# Altium schematic symbol library MinervaBots.SCHLIB: 191 symbols (part 1 of 2)
Pins are listed as number, name and electrical type; pins without a type are passive.

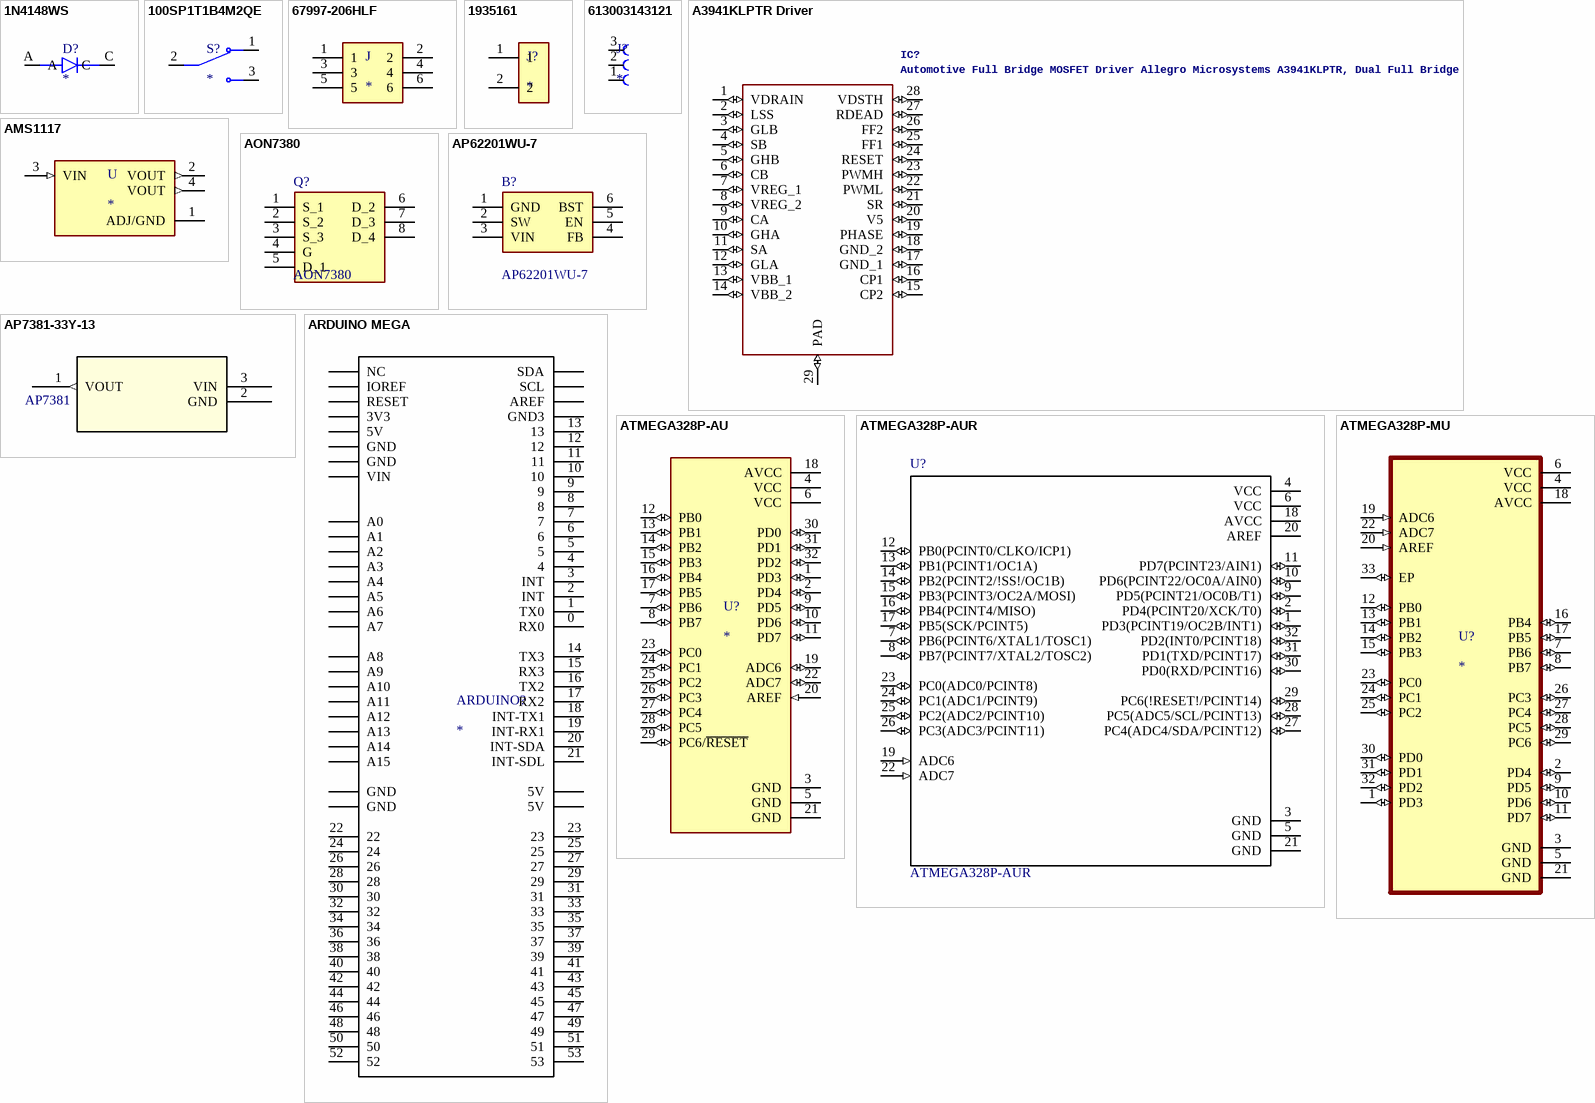
[diagram p0: symbols 1N4148WS to ATMEGA328P-MU]

## 1N4148WS
designator D?
Diode Standard 75V 300mA (DC) Surface Mount SOD-323; MF: ON Semiconductor; MP: 1N4148WS; Purchase-URL: https://pricing.snapeda.com/search/part/1N4148WS/?ref=eda; Value: *; Package: SOD-323FL-2 ON Semiconductor; Availability: In Stock; Price: None
footprint SODFL2512X100N
pins: A, C

## 100SP1T1B4M2QE
designator S?
Toggle Switch SPDT Through Hole; MP: 100SP1T1B4M2QE; Value: *; Availability: Unavailable; Price: None; Package: None
footprint SW_100SP1T1B4M2QE_ciano (Footprint not found)
footprint SW_100SP1T1B4M2QE_vermelho (Footprint not found)
footprint SW_100SP1T1B4M2QE_azul (Footprint not found)
footprint SW_100SP1T1B4M2QE_verde (Footprint not found)
pins: 1, 2, 3

## 67997-206HLF
designator J
Connector Header Through Hole 6 position 0.100 _2.54mm_; MF: Amphenol ICC; MP: 67997-206HLF; SnapEDA_Link: https://www.snapeda.com/parts/67997-206HLF/Amphenol%20FCI/view-part/103429/?ref=snap; Value: *; Digi-Key_Purchase_URL: https://www.digikey.com/product-detail/en/amphenol-icc-fci/67997-206HLF/609-3234-ND/1878491?utm_source=snapeda&utm_medium=aggregator&utm_campaign=symbol; Digi-Key_Part_Number: 609-3234-ND; Package: None
footprint FRAMATOME_67997-206HLF
pins: 1, 2, 3, 4, 5, 6

## 1935161
designator J?
2 Position Wire to Board Terminal Block Horizontal with Board 0.197 (5.00mm) Through Hole; MF: Phoenix Contact; MP: 1935161; Purchase-URL: https://pricing.snapeda.com/search/part/1935161/?ref=eda; Package: None; Availability: In Stock; Value: *; Check_prices: https://www.snapeda.com/parts/1935161/Phoenix+Contact/view-part/?ref=eda; SnapEDA_Link: https://www.snapeda.com/parts/1935161/Phoenix+Contact/view-part/?ref=snap; Price: None
footprint Borne KF-128 (Footprint not found)
pins: 1, 2

## 613003143121
designator J?
BTB CONN, R/A RCPT, 3POS, 1ROW, 2.54MM ROHS COMPLIANT: YES; MF: Wurth Electronics; MP: 613003143121; SnapEDA_Link: https://www.snapeda.com/parts/613003143121/Wurth+Electronics+Inc/view-part/?ref=snap; Package: None; Value: *; Check_prices: https://www.snapeda.com/parts/613003143121/Wurth+Electronics+Inc/view-part/?ref=eda
footprint 613003143121
footprint 613003143121
pins: 1 3, 2, 3 1

## A3941KLPTR Driver
designator IC?, comment Automotive Full Bridge MOSFET Driver Allegro Microsystems A3941KLPTR, Dual Full Bridge MOSFET Power Driver, 5.5  50 V, High Side/Low Side, 28-PinSource:  Datasheet
Driver de motor brushed; GateName_1: G$1; SymbolName_1: A3941KLPTR; LibraryName: A3941KLPTR; DeviceSetName: A3941KLPTR; Package: SOP65P640X120-29N; Manufacturer_Name: Allegro Microsystems; Manufacturer_Part_Number: A3941KLPTR; Height: 1.2mm
footprint SOP65P640X120-29N
pins: 1 VDRAIN (io), 2 LSS (io), 3 GLB (io), 4 SB (io), 5 GHB (io), 6 CB (io), 7 VREG_1 (io), 8 VREG_2 (io), 9 CA (io), 10 GHA (io), 11 SA (io), 12 GLA (io), 13 VBB_1 (io), 14 VBB_2 (io), 15 CP2 (io), 16 CP1 (io), 17 GND_1 (io), 18 GND_2 (io), 19 PHASE (io), 20 V5 (io), 21 SR (io), 22 PWML (io), 23 PWMH (io), 24 RESET (io), 25 FF1 (io), 26 FF2 (io), 27 RDEAD (io), 28 VDSTH (io), 29 PAD (io)

## AMS1117
designator U
UNO PLUS Arduino R3 Shield, Xbee Arduino IDE Wheeled Robotics Kit; MP: AMS1117; MF: Seeed Technology; Availability: Unavailable; SnapEDA_Link: https://www.snapeda.com/parts/AMS1117/Seeed%20Technology%20Co.%2C%20Ltd/view-part/184428/?ref=snap; Price: None; Value: *; Package: SOT-223 Seeed Technology
footprint SOT229P700X180-4N
pins: 1 ADJ/GND (power), 2 VOUT (out), 3 VIN (in), 4 VOUT (out)

## AON7380
designator Q?
N-Channel 30 V 24A (Tc) 4.1W (Ta), 24W (Tc) Surface Mount 8-DFN-EP (3x3); Manufacturer_Name: Toshiba; Manufacturer_Part_Number: TPH1R403NL,L1Q; Geometry.Height: 1mm; Mouser Part Number: 757-TPH1R403NLL1Q; Mouser Price/Stock: https://www.mouser.co.uk/ProductDetail/Toshiba/TPH1R403NLL1Q?qs=HVbQlW5zcXWxPmEVdb2K1w%3D%3D; Arrow Part Number: TPH1R403NL,L1Q; Arrow Price/Stock: https://www.arrow.com/en/products/tph1r403nll1q/toshiba?region=nac; Datasheet Link: https://www.arrow.com/en/products/tph1r403nll1q/toshiba
footprint AON7380 (N-Channel 30 V 24A (Tc) 4.1W (Ta), 24W (Tc) Surface Mount 8-DFN-EP (3x3))
pins: 1 S_1, 2 S_2, 3 S_3, 4 G, 5 D_1, 6 D_2, 7 D_3, 8 D_4

## AP7381-33Y-13
designator U?, comment AP7381
Regulador linear. Corrente Max.: 150mA; Mfr_Name: Diodes Inc; RefDes: RefDes; Type: Type
footprint SOT89_DIO
footprint SOT89_DIO-L
footprint SOT89_DIO-M
footprint SOT-23
pins: 1 VOUT (out), 2 GND (power), 3 VIN (power)

## AP62201WU-7
designator B?
Switching Voltage Regulators DCDC Conv HV Buck TSOT26(STD) T&R 3K; Manufacturer_Name: Diodes Incorporated; Geometry.Height: 1mm; Manufacturer_Part_Number: AP62201WU-7; Mouser Part Number: 621-AP62201WU-7; Mouser Price/Stock: https://www.mouser.co.uk/ProductDetail/Diodes-Incorporated/AP62201WU-7?qs=yqaQSyyJnNgmmr1hWGUqfg%3D%3D; Arrow Part Number: AP62201WU-7; Arrow Price/Stock: https://www.arrow.com/en/products/ap62201wu-7/diodes-incorporated?region=nac; Datasheet Link: https://www.arrow.com/en/products/ap62201wu-7/diodes-incorporated?region=nac
footprint SOT95P280X100-6N
pins: 1 GND, 2 SW, 3 VIN, 4 FB, 5 EN, 6 BST

## ARDUINO MEGA
designator ARDUINO?
footprint Arduino Mega
pins: 0 RX0 (power), 1 TX0 (power), 2 INT (power), 3 INT (power), 3V3 (power), 4 (power), 5 (power), 5V_1 5V (power), 5V_2 5V (power), 5V_3 5V (power), 6 (power), 7 (power), 8 (power), 9 (power), 10 (power), 11 (power), 12 (power), 13 (power), 14 TX3 (power), 15 RX3 (power), 16 TX2 (power), 17 RX2 (power), 18 INT-TX1 (power), 19 INT-RX1 (power), 20 INT-SDA (power), 21 INT-SDL (power), 22 (power), 23 (power), 24 (power), 25 (power), 26 (power), 27 (power), 28 (power), 29 (power), 30 (power), 31 (power), 32 (power), 33 (power), 34 (power), 35 (power), 36 (power), 37 (power), 38 (power), 39 (power), 40 (power), 41 (power), 42 (power), 43 (power), 44 (power), 45 (power), 46 (power), 47 (power), 48 (power), 49 (power), 50 (power), 51 (power), 52 (power), 53 (power), AD0 A0 (power), AD1 A1 (power), AD2 A2 (power), AD3 A3 (power), AD4 A4 (power), AD5 A5 (power), AD6 A6 (power), AD7 A7 (power), AD8 A8 (power), AD9 A9 (power), AD10 A10 (power), AD11 A11 (power), AD12 A12 (power), AD13 A13 (power), AD14 A14 (power), AD15 A15 (power), AREF (power), GND1 GND (power), GND2 GND (power), GND3 (power), GND4 GND (power), GND5 GND (power), IOREF (power), NC (power), RESET (power), SCL (power), SDA (power), VIN (power)

## ATMEGA328P-AU
designator U?
AVR AVRÂ® ATmega Microcontroller IC 8-Bit 20MHz 32KB (16K x 16) FLASH 32-TQFP (7x7); MF: Microchip Technology; MP: ATMEGA328P-AU; SnapEDA_Link: https://www.snapeda.com/parts/ATMEGA328P-AU/Microchip/view-part/?ref=snap; Package: TQFP-32 Microchip; Value: *; Check_prices: https://www.snapeda.com/parts/ATMEGA328P-AU/Microchip/view-part/?ref=eda
footprint QFP80P900X900X120-32N
pins: 1 PD3 (io), 2 PD4 (io), 3 GND (power), 4 VCC (power), 5 GND (power), 6 VCC (power), 7 PB6 (io), 8 PB7 (io), 9 PD5 (io), 10 PD6 (io), 11 PD7 (io), 12 PB0 (io), 13 PB1 (io), 14 PB2 (io), 15 PB3 (io), 16 PB4 (io), 17 PB5 (io), 18 AVCC (power), 19 ADC6 (io), 20 AREF (in), 21 GND (power), 22 ADC7 (io), 23 PC0 (io), 24 PC1 (io), 25 PC2 (io), 26 PC3 (io), 27 PC4 (io), 28 PC5 (io), 29 PC6/~{RESET} (io), 30 PD0 (io), 31 PD1 (io), 32 PD2 (io)

## ATMEGA328P-AUR
designator U?
ATmega328P Series 8 Bit 2 kB RAM 32 kB Flash SMT Microcontroller - TQFP-32; MF: Microchip; MP: ATMEGA328P-AUR; Package: TQFP-32 Microchip; Price: None; SnapEDA_Link: https://www.snapeda.com/parts/ATMEGA328P-AUR/Microchip/view-part/?ref=snap; Availability: Unavailable; Value: *
footprint ATMEGA328P-AUR
pins: 1 PD3(PCINT19/OC2B/INT1) (io), 2 PD4(PCINT20/XCK/T0) (io), 3 GND (power), 4 VCC (power), 5 GND (power), 6 VCC (power), 7 PB6(PCINT6/XTAL1/TOSC1) (io), 8 PB7(PCINT7/XTAL2/TOSC2) (io), 9 PD5(PCINT21/OC0B/T1) (io), 10 PD6(PCINT22/OC0A/AIN0) (io), 11 PD7(PCINT23/AIN1) (io), 12 PB0(PCINT0/CLKO/ICP1) (io), 13 PB1(PCINT1/OC1A) (io), 14 PB2(PCINT2/!SS!/OC1B) (io), 15 PB3(PCINT3/OC2A/MOSI) (io), 16 PB4(PCINT4/MISO) (io), 17 PB5(SCK/PCINT5) (io), 18 AVCC (power), 19 ADC6 (in), 20 AREF (power), 21 GND (power), 22 ADC7 (in), 23 PC0(ADC0/PCINT8) (io), 24 PC1(ADC1/PCINT9) (io), 25 PC2(ADC2/PCINT10) (io), 26 PC3(ADC3/PCINT11) (io), 27 PC4(ADC4/SDA/PCINT12) (io), 28 PC5(ADC5/SCL/PCINT13) (io), 29 PC6(!RESET!/PCINT14) (io), 30 PD0(RXD/PCINT16) (io), 31 PD1(TXD/PCINT17) (io), 32 PD2(INT0/PCINT18) (io)

## ATMEGA328P-MU
designator U?
AVR AVR® ATmega Microcontroller IC 8-Bit 20MHz 32KB (16K x 16) FLASH 32-VQFN (5x5); MF: Microchip Technology / Atmel; MP: ATMEGA328P-MU; SnapEDA_Link: https://www.snapeda.com/parts/ATMEGA328P-MU/Atmel/view-part/?ref=snap; Package: VQFN-32 Microchip Technology; Value: *; Check_prices: https://www.snapeda.com/parts/ATMEGA328P-MU/Atmel/view-part/?ref=eda
footprint QFN50P500X500X100-33N
pins: 1 PD3 (io), 2 PD4 (io), 3 GND (power), 4 VCC (power), 5 GND (power), 6 VCC (power), 7 PB6 (io), 8 PB7 (io), 9 PD5 (io), 10 PD6 (io), 11 PD7 (io), 12 PB0 (io), 13 PB1 (io), 14 PB2 (io), 15 PB3 (io), 16 PB4 (io), 17 PB5 (io), 18 AVCC (power), 19 ADC6 (in), 20 AREF (in), 21 GND (power), 22 ADC7 (in), 23 PC0 (io), 24 PC1 (io), 25 PC2 (io), 26 PC3 (io), 27 PC4 (io), 28 PC5 (io), 29 PC6 (io), 30 PD0 (io), 31 PD1 (io), 32 PD2 (io), 33 EP (io)

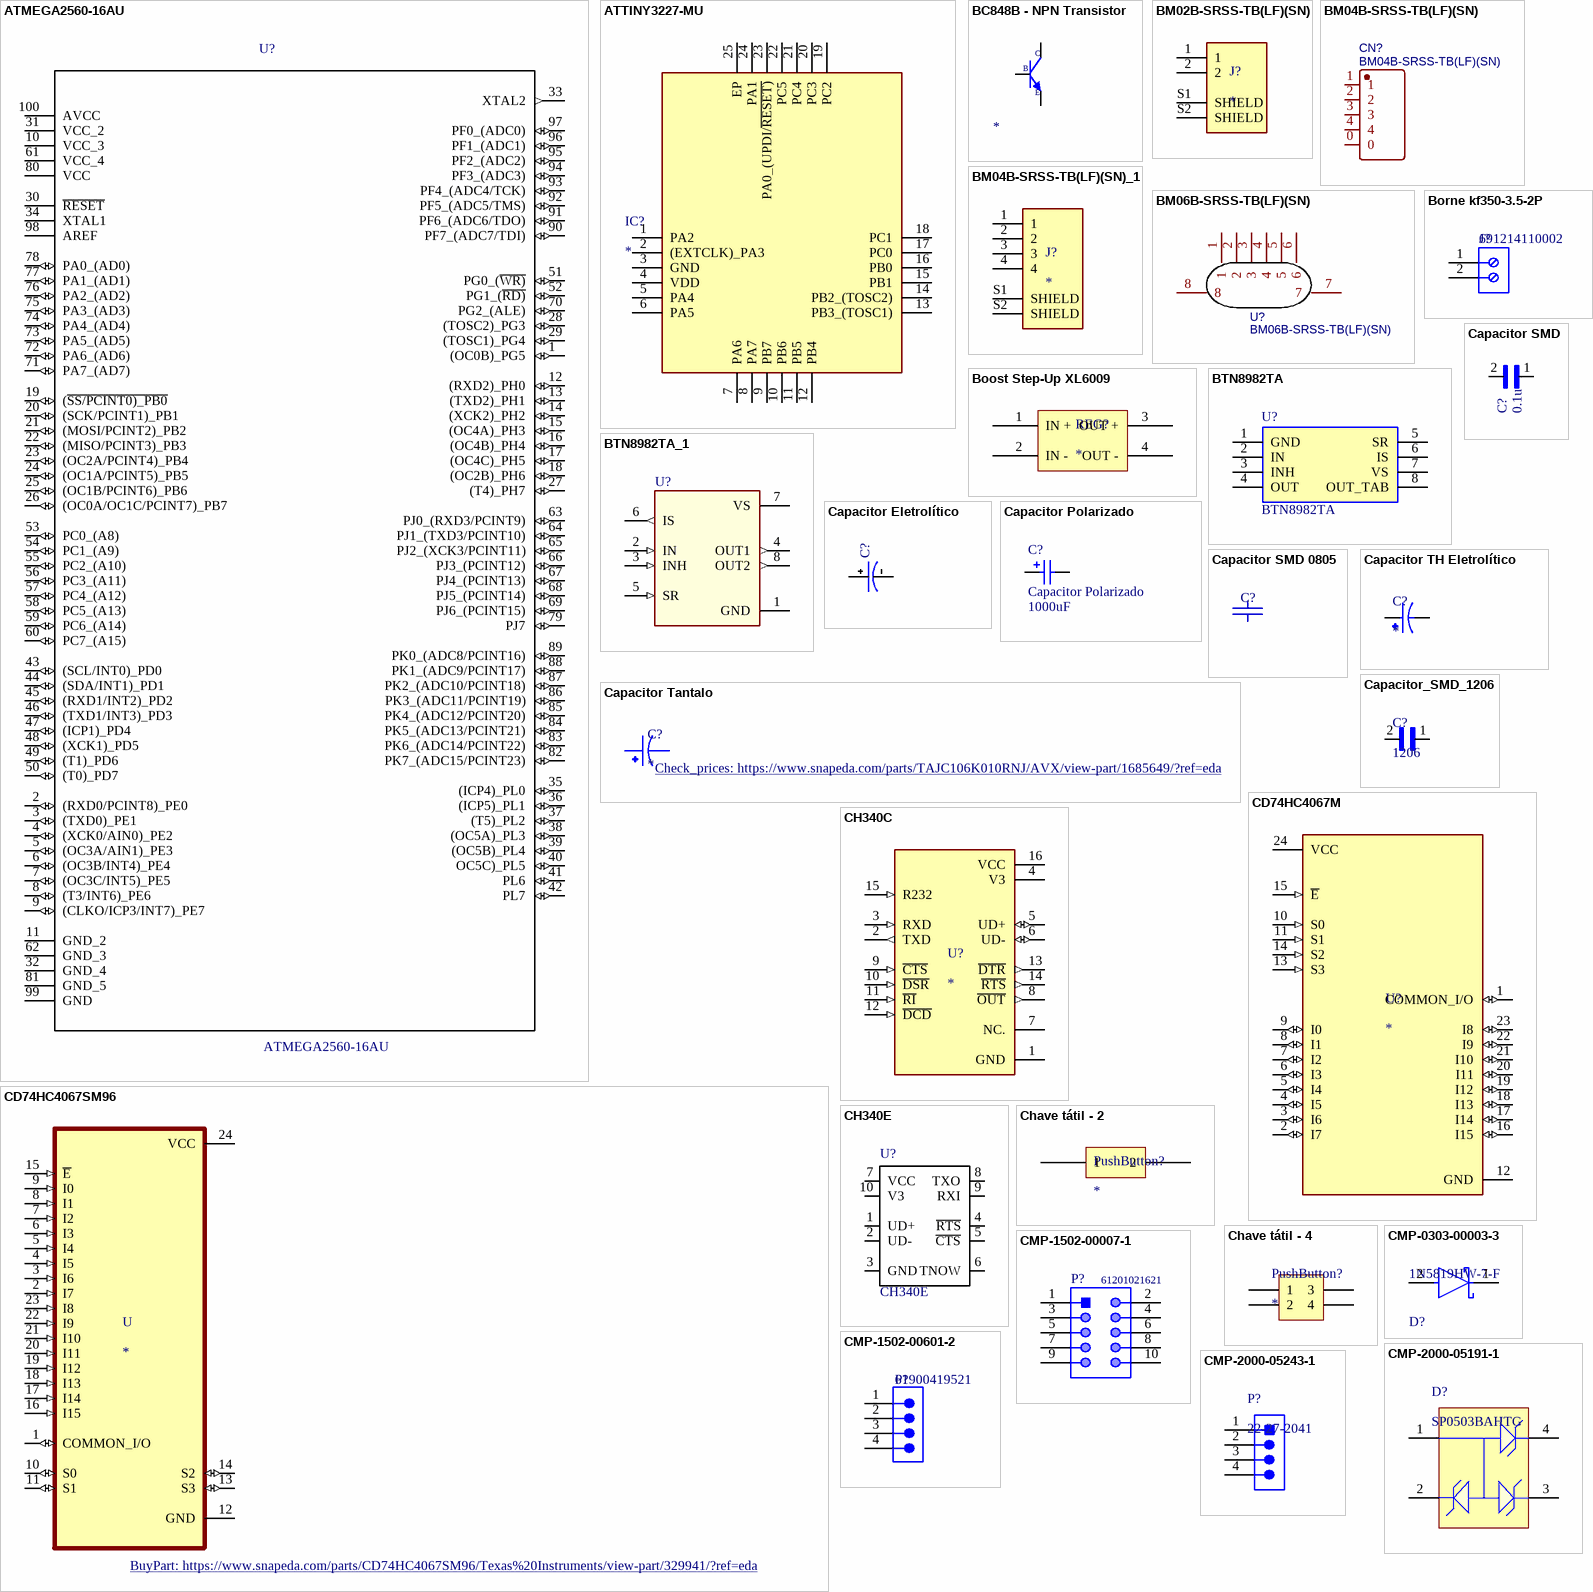
[diagram p1: symbols ATMEGA2560-16AU to CMP-2000-05243-1]

## ATMEGA2560-16AU
designator U?
Embedded microcontroller ATMEGA2560-16AU TQFP 100 _14x14_ Microchip Technology 8-Bit 16 MHz I/O number 86; Price: None; SnapEDA_Link: https://www.snapeda.com/parts/ATMEGA2560-16AU/Microchip/view-part/?ref=snap; MF: Microchip; Availability: Unavailable; Package: TQFP-100 Microchip; MP: ATMEGA2560-16AU; Value: *
footprint ATMEGA2560-16AU
pins: 1 (OC0B)_PG5 (io), 2 (RXD0/PCINT8)_PE0 (io), 3 (TXD0)_PE1 (io), 4 (XCK0/AIN0)_PE2 (io), 5 (OC3A/AIN1)_PE3 (io), 6 (OC3B/INT4)_PE4 (io), 7 (OC3C/INT5)_PE5 (io), 8 (T3/INT6)_PE6 (io), 9 (CLKO/ICP3/INT7)_PE7 (io), 10 VCC_3 (power), 11 GND_2, 12 (RXD2)_PH0 (io), 13 (TXD2)_PH1 (io), 14 (XCK2)_PH2 (io), 15 (OC4A)_PH3 (io), 16 (OC4B)_PH4 (io), 17 (OC4C)_PH5 (io), 18 (OC2B)_PH6 (io), 19 (~{SS/PCINT0)_PB0} (io), 20 (SCK/PCINT1)_PB1 (io), 21 (MOSI/PCINT2)_PB2 (io), 22 (MISO/PCINT3)_PB3 (io), 23 (OC2A/PCINT4)_PB4 (io), 24 (OC1A/PCINT5)_PB5 (io), 25 (OC1B/PCINT6)_PB6 (io), 26 (OC0A/OC1C/PCINT7)_PB7 (io), 27 (T4)_PH7 (io), 28 (TOSC2)_PG3 (io), 29 (TOSC1)_PG4 (io), 30 ~{RESET}, 31 VCC_2 (power), 32 GND_4, 33 XTAL2 (out), 34 XTAL1, 35 (ICP4)_PL0 (io), 36 (ICP5)_PL1 (io), 37 (T5)_PL2 (io), 38 (OC5A)_PL3 (io), 39 (OC5B)_PL4 (io), 40 OC5C)_PL5 (io), 41 PL6 (io), 42 PL7 (io), 43 (SCL/INT0)_PD0 (io), 44 (SDA/INT1)_PD1 (io), 45 (RXD1/INT2)_PD2 (io), 46 (TXD1/INT3)_PD3 (io), 47 (ICP1)_PD4 (io), 48 (XCK1)_PD5 (io), 49 (T1)_PD6 (io), 50 (T0)_PD7 (io), 51 PG0_(~{WR)} (io), 52 PG1_(~{RD)} (io), 53 PC0_(A8) (io), 54 PC1_(A9) (io), 55 PC2_(A10) (io), 56 PC3_(A11) (io), 57 PC4_(A12) (io), 58 PC5_(A13) (io), 59 PC6_(A14) (io), 60 PC7_(A15) (io), 61 VCC_4 (power), 62 GND_3, 63 PJ0_(RXD3/PCINT9) (io), 64 PJ1_(TXD3/PCINT10) (io), 65 PJ2_(XCK3/PCINT11) (io), 66 PJ3_(PCINT12) (io), 67 PJ4_(PCINT13) (io), 68 PJ5_(PCINT14) (io), 69 PJ6_(PCINT15) (io), 70 PG2_(ALE) (io), 71 PA7_(AD7) (io), 72 PA6_(AD6) (io), 73 PA5_(AD5) (io), 74 PA4_(AD4) (io), 75 PA3_(AD3) (io), 76 PA2_(AD2) (io), 77 PA1_(AD1) (io), 78 PA0_(AD0) (io), 79 PJ7 (io), 80 VCC (power), 81 GND_5, 82 PK7_(ADC15/PCINT23) (io), 83 PK6_(ADC14/PCINT22) (io), 84 PK5_(ADC13/PCINT21) (io), 85 PK4_(ADC12/PCINT20) (io), 86 PK3_(ADC11/PCINT19) (io), 87 PK2_(ADC10/PCINT18) (io), 88 PK1_(ADC9/PCINT17) (io), 89 PK0_(ADC8/PCINT16) (io), 90 PF7_(ADC7/TDI) (io), 91 PF6_(ADC6/TDO) (io), 92 PF5_(ADC5/TMS) (io), 93 PF4_(ADC4/TCK) (io), 94 PF3_(ADC3) (io), 95 PF2_(ADC2) (io), 96 PF1_(ADC1) (io), 97 PF0_(ADC0) (io), 98 AREF, 99 GND, 100 AVCC (power)

## ATTINY3227-MU
designator IC?
Integrated Circuit; Manufacturer_Name: Microchip; Manufacturer_Part_Number: ATTINY3227-MU; Datasheet Link: https://ww1.microchip.com/downloads/aemDocuments/documents/MCU08/ProductDocuments/DataSheets/ATtiny3224-3226-3227-Data-Sheet-DS40002345B.pdf; Height: 0.9mm; Mouser Part Number: 579-ATTINY3227-MU; Mouser Price/Stock: https://www.mouser.co.uk/ProductDetail/Microchip-Technology/ATTINY3227-MU?qs=A6eO%252BMLsxmQn1FUbCnj%252BnQ%3D%3D; Arrow Part Number: ATTINY3227-MU; Arrow Price/Stock: https://www.arrow.com/en/products/attiny3227-mu/microchip-technology?region=nac
footprint QFN50P400X400X90-25N-D
pins: 1 PA2, 2 (EXTCLK)_PA3, 3 GND, 4 VDD, 5 PA4, 6 PA5, 7 PA6, 8 PA7, 9 PB7, 10 PB6, 11 PB5, 12 PB4, 13 PB3_(TOSC1), 14 PB2_(TOSC2), 15 PB1, 16 PB0, 17 PC0, 18 PC1, 19 PC2, 20 PC3, 21 PC4, 22 PC5, 23 PA0_(UPDI/~{RESET)}, 24 PA1, 25 EP

## BC848B - NPN Transistor
designator Q?
NPN Transistor; Model: *
footprint SOT-23
pins: B, C, E

## BM02B-SRSS-TB(LF)(SN)
designator J?
Conn Shrouded Header (4 Sides) HDR 2 POS 1mm Solder ST Top Entry SMD T/R; MP: BM02B-SRSS-TB(LF)(SN); MF: JST Sales America Inc.; Package: None; Check_prices: https://www.snapeda.com/parts/BM02B-SRSS-TB(LF)(SN)/JST/view-part/?ref=eda; SnapEDA_Link: https://www.snapeda.com/parts/BM02B-SRSS-TB(LF)(SN)/JST/view-part/?ref=snap; Availability: In Stock; Price: None; Value: *
footprint JST_BM02B-SRSS-TB(LF)(SN)
pins: 1, 2, S1 SHIELD, S2 SHIELD

## BM04B-SRSS-TB(LF)(SN)
designator CN?
Manufacturer: JST; Contributor: LCSC; Supplier: LCSC; Supplier Part: C160390; Manufacturer Part: BM04B-SRSS-TB(LF)(SN); JLCPCB Part Class: Extended Part; spicePre: C; spiceSymbolName: BM04B-SRSS-TB(LF)(SN)
footprint CONN-SMD_BM04B-SRSS-TB
pins: 0, 1, 2, 3, 4

## BM04B-SRSS-TB(LF)(SN)_1
designator J?
Connector Header Surface Mount 4 position 0.039 (1.00mm); MP: BM04B-SRSS-TB(LF)(SN); MF: JST Sales; Package: None; Availability: In Stock; SnapEDA_Link: https://www.snapeda.com/parts/BM04B-SRSS-TB(LF)(SN)/JST+Sales+America+Inc./view-part/?ref=snap; Value: *; Price: None; Purchase-URL: https://pricing.snapeda.com/search/part/BM04B-SRSS-TB(LF)(SN)/?ref=eda; Check_prices: https://www.snapeda.com/parts/BM04B-SRSS-TB(LF)(SN)/JST+Sales+America+Inc./view-part/?ref=eda
footprint JST_BM04B-SRSS-TB(LF)(SN)
pins: 1, 2, 3, 4, S1 SHIELD, S2 SHIELD

## BM06B-SRSS-TB(LF)(SN)
designator U?
Manufacturer: JST; Contributor: LCSC; Supplier: LCSC; Supplier Part: C160392; Manufacturer Part: BM06B-SRSS-TB(LF)(SN); JLCPCB Part Class: Extended Part; spicePre: U; spiceSymbolName: BM06B-SRSS-TB(LF)(SN)
footprint CONN-SMD-6P-P1.00_BM06B-SRSS-TB-LF-SN
pins: 1, 2, 3, 4, 5, 6, 7, 8

## Boost Step-Up XL6009
designator REG?
footprint STEP-UP XL6009 MODULE
pins: 1 IN + (power), 2 IN - (power), 3 OUT + (power), 4 OUT - (power)

## Borne kf350-3.5-2P
designator J?, comment 691214110002
NexarPartId: 18818288; Plating: Brass, Steel; Current: 10A; Pitch: 3.5052mm; Number of Levels: 1; Number of Contacts: 2; Wire Gauge (Min): 16AWG; Voltage: 300V; Wire Gauge (Max): 24AWG; Stripping Length: -6mm; Number of Pins: 2; Number of Rows: 1; REACH SVHC: Unknown; RoHS: Compliant; Housing Material: Nylon; Termination: Screw; Mount: Through Hole; Contact Plating: Brass, Tin; Number of Positions Per Level: 2; Color: Blue, Green; Width: 7.9mm; Voltage Rating: 300V; Length: 7.4mm; Current Rating: 10A; Wire/Cable Gauge: 24AWG; Packaging: Box; Max Operating Temperature: 105°C; Lead Pitch: 3.5mm; Height: 8.7mm; Contact Material: Brass; Min Operating Temperature: -40°C
footprint 691214110002 (3.50 mm Horizontal Entry Modular, 2p)
pins: 1, 2

## BTN8982TA
designator U?
New Infineon BTN8982TA Motor Driver,, 7-Pin TO-263-7-1; Geometry.Height: 4.4mm; Supplier_Name: RS; RS Part Number: 1248819; Manufacturer_Name: Infineon; Manufacturer_Part_Number: BTN8982TA; Allied_Number: *; Other Part Number: *; Datasheet Link: http://docs-europe.electrocomponents.com/webdocs/1478/0900766b81478095.pdf; 3D Package: *
footprint BTN8982
pins: 1 GND, 2 IN, 3 INH, 4 OUT, 5 SR, 6 IS, 7 VS, 8 OUT_TAB

## BTN8982TA_1
designator U?, comment BTN8982TA  (value not drawn)
High Current PN Half Bridge NovalithIC; Manufacturer: Infineon Technologies; ManufacturerPartNumber: BTN8982TA; PackageReference: PG-TO263-7-1
footprint TO127P1500X440-8N-1 (TO,1.27mm pitch;7 pin,15.00mm L X 9.25mm W X 4.40mm H body)
pins: 1 GND (power) "Ground", 2 IN (in) "Input", 3 INH (in) "Inhibit", 4 OUT1 (out) "Power Output of the Bridge", 5 SR (in) "Slew Rate", 6 IS (out) "Current Sense and Diagnostics", 7 VS (power) "Supply", 8 OUT2 (out) "Power Output of the Bridge"

## Capacitor Eletrolítico
designator C?
MP: ECA-1HM101; MF: Panasonic; Value: *; SnapEDA_Link: https://www.snapeda.com/parts/ECA-1HM101/Panasonic%20Electronic%20Components/view-part/?ref=snap; Package: Radial Panasonic; Price: 0.12 USD; Availability: Good
footprint Capacitor Eletrolítico 5x11 - Vertical
footprint Capacitor Eletrolítico 5x11 - Deitado para Cima
footprint Capacitor Eletrolítico 5x11 - Deitado para Baixo
footprint Capacitor Eletrolítico 6.3x11 - Deitado para Baixo
footprint Capacitor Eletrolítico 6.3x11 - Deitado para Cima
footprint Capacitor Eletrolítico 6.3x11 - Vertical
footprint Capacitor Eletrolítico 8x12 - Deitado para Baixo
footprint Capacitor Eletrolítico 8x12 - Deitado para Cima
footprint Capacitor Eletrolítico 8x12 - Vertical
pins: N, P

## Capacitor Polarizado
designator C?  value 1000uF
Polarized Capacitor (Radial); Published: 8-Jun-2000; LatestRevisionDate: 17-Jul-2002; LatestRevisionNote: Re-released for DXP Platform.; PackageReference: RB7.6-15; Publisher: Altium Limited; PackageDescription: Polarized Capacitor (Radial); 2 Leads
footprint Capacitor Polarizado (Footprint not found)
simulation model CAP (Capacitor)
signal-integrity model Cap Pol
pins: 1, 2
1 alternate drawing of the same symbol

## Capacitor SMD
designator C?, comment 0.1u
0805 390 pF 50 V Â±5% Tolerance C0G SMT Multilayer Ceramic Capacitor; MF: Murata Electronics; MP: GRM2165C1H391JA01D; Price: 0.07 USD; SnapEDA_Link: https://www.snapeda.com/parts/GRM2165C1H391JA01D/Murata%2520Electronics%2520North%2520America/view-part/?ref=snap; Availability: Good; Package: 0805 Murata; Value: *
footprint Capacitor SMD
pins: 1, 2

## Capacitor SMD 0805
designator C?  (value not drawn)
Capacitor
footprint SMD Capacitor
footprint CAPC0603
footprint CAPC2220
footprint CAPC0805
footprint CAPC0402
footprint CAPC1206
pins: 1, 2

## Capacitor Tantalo
designator C?
10µF Molded Tantalum Capacitors 10V 2.5Ohm; MP: TAJC106K010RNJ; MF: AVX; Package: 2312 AVX; Purchase-URL: https://pricing.snapeda.com/search/part/TAJC106K010RNJ/?ref=eda; Price: None; Availability: Warning; SnapEDA_Link: https://www.snapeda.com/parts/TAJC106K010RNJ/AVX/view-part/1685649/?ref=snap; Value: *; Check_prices: https://www.snapeda.com/parts/TAJC106K010RNJ/AVX/view-part/1685649/?ref=eda
footprint Capacitor Tântalo Case A - 3216
footprint Capacitor Tântalo Case C - 6032
footprint Capacitor Tântalo Case D - 7343
footprint Capacitor Tântalo Case B - 3528
pins: 1, 2

## Capacitor TH Eletrolítico
designator C?
CAP ALUM 2000UF 20% 25V RADIAL; MP: EEUTP1E202SB; MF: Panasonic; Availability: In Stock; Package: RADIAL-2 Panasonic; Value: *; Check_prices: https://www.snapeda.com/parts/EEUTP1E202SB/Panasonic/view-part/5792110/?ref=eda; SnapEDA_Link: https://www.snapeda.com/parts/EEUTP1E202SB/Panasonic/view-part/5792110/?ref=snap; Price: None
footprint CAPPRD750W80D1600H2000
pins: N, P

## Capacitor_SMD_1206
designator C?, comment 1206
Capacitor SMD de tamanho 1206; MP: GRM31CC80E157ME11K; MF: Murata; Price: None; Availability: In Stock; Package: 1206 Murata; Value: *; SnapEDA_Link: https://www.snapeda.com/parts/GRM31CC80E157ME11K/Murata/view-part/?ref=snap; Purchase-URL: https://pricing.snapeda.com/search/part/GRM31CC80E157ME11K/?ref=eda; Check_prices: https://www.snapeda.com/parts/GRM31CC80E157ME11K/Murata/view-part/?ref=eda
footprint CAPC3216X190
pins: 1, 2

## CD74HC4067M
designator U?
5-V, 16:1, 1-channel analog multiplexer; MP: CD74HC4067M; Value: *; Availability: Unavailable; Package: None; Price: None
footprint CD74HC4067
pins: 1 COMMON_I/O (io), 2 I7 (io), 3 I6 (io), 4 I5 (io), 5 I4 (io), 6 I3 (io), 7 I2 (io), 8 I1 (io), 9 I0 (io), 10 S0 (in), 11 S1 (in), 12 GND (power), 13 S3 (in), 14 S2 (in), 15 ~{E} (in), 16 I15 (io), 17 I14 (io), 18 I13 (io), 19 I12 (io), 20 I11 (io), 21 I10 (io), 22 I9 (io), 23 I8 (io), 24 VCC (power)

## CD74HC4067SM96
designator U
5-V, 16:1, 1-channel analog multiplexer 24-SSOP -55 to 125; MP: CD74HC4067SM96; MF: Texas Instruments; SnapEDA_Link: https://www.snapeda.com/parts/CD74HC4067SM96/Texas%20Instruments/view-part/329941/?ref=snap; Value: *; Texas_Instruments-Purchase-URL: https://snapeda.com/shop?store=Texas+Instruments&id=329941; Package: SSOP-24 Texas Instruments; Digi-Key_Part_Number: 296-9226-1-ND; BuyPart: https://www.snapeda.com/parts/CD74HC4067SM96/Texas%20Instruments/view-part/329941/?ref=eda
footprint SOP65P780X200-24N
pins: 1 COMMON_I/O (io), 2 I7 (in), 3 I6 (in), 4 I5 (in), 5 I4 (in), 6 I3 (in), 7 I2 (in), 8 I1 (in), 9 I0 (in), 10 S0 (io), 11 S1 (io), 12 GND (power), 13 S3 (io), 14 S2 (io), 15 ~{E} (in), 16 I15 (in), 17 I14 (in), 18 I13 (in), 19 I12 (in), 20 I11 (in), 21 I10 (in), 22 I9 (in), 23 I8 (in), 24 VCC (power)

## CH340C
designator U?
USB to serial chip CH340; MP: CH340C; MF: WCH; Price: None; Availability: Not in stock; Package: None; SnapEDA_Link: https://www.snapeda.com/parts/CH340C/WCH/view-part/?ref=snap; Check_prices: https://www.snapeda.com/parts/CH340C/WCH/view-part/?ref=eda; Value: *
footprint SOIC127P600X180-16N
footprint CH340C
pins: 1 GND (power), 2 TXD (out), 3 RXD (in), 4 V3 (power), 5 UD+ (io), 6 UD- (io), 7 NC., 8 ~{OUT} (out), 9 ~{CTS} (in), 10 ~{DSR} (in), 11 ~{RI} (in), 12 ~{DCD} (in), 13 ~{DTR} (out), 14 ~{RTS} (out), 15 R232 (in), 16 VCC (power)

## CH340E
designator U?
USB to serial chip CH340; MF: WCH; Availability: Unavailable; Package: Package Analog Devices; Price: None; MP: CH340E; SnapEDA_Link: https://www.snapeda.com/parts/CH340E/WCH/view-part/?ref=snap; Value: *
footprint *MSOP10
pins: 1 UD+ (io), 2 UD- (io), 3 GND (io), 4 ~{RTS} (io), 5 ~{CTS} (io), 6 TNOW (io), 7 VCC (io), 8 TXO (io), 9 RXI (io), 10 V3 (io)

## Chave tátil - 2
designator PushButton?
Chave tátil/pushbutton/momentary switch
footprint Chave tátil - 2 (2 pins)
pins: 1, 2

## Chave tátil - 4
designator PushButton?
Chave tátil/pushbutton/momentary switch
footprint Chave tátil - 4 (4 pins)
pins: 1, 2, 3, 4

## CMP-0303-00003-3
designator D?, comment 1N5819HW-7-F
DIODE SCHOTTKY 40V 1A SOD123; Forward Voltage: 450mV; Capacitance: 110pF; Max Forward Surge Current (Ifsm): 25A; Peak Reverse Current: 50uA; Polarity: Standard; Element Configuration: Single; Max Power Dissipation: 450mW; Min Operating Temperature: -65°C; Package Quantity: 3000; Contact Plating: Tin; Weight: 0.000353oz; Max Repetitive Reverse Voltage (Vrrm): 40V; Max Reverse Voltage (DC): 40V; Height: 1.25mm; Average Rectified Current: 1A; Width: 1.7mm; Case/Package: SOD-123-2; Lead Free: Lead Free; Max Operating Temperature: 125°C; Current Rating: 1A; Termination: SMD/SMT; Forward Current: 1A; Radiation Hardening: No; Number of Pins: 2; Length: 2.85mm; Voltage Rating (DC): 40V; REACH SVHC: No SVHC; Peak Non-Repetitive Surge Current: 25A; Packaging: Tape and Reel; Output Current: 1A
footprint FP-SOD123-MFG
footprint FP-SOD123-IPC_A
footprint FP-SOD123-IPC_C
footprint FP-SOD123-IPC_B
pins: 1 C, 2 A

## CMP-1502-00007-1
designator P?, comment 61201021621
Male Box Header WR-BHD, THT, Vertical, pitch 2.54 mm, 10 pins; Manufacturer: Wurth Elektronik; Contact Resistance: 20mOhm; Withstanding Voltage: 500VAC; Pin Number: 10; Working Voltage: 250VAC; Pitch: 2.54mm; Mounting Technology: THT; Operating Temperature: -40to125degC; Published Date: August2018; Gender: Male; Packaging: Tray; Manufacturer URL: http://www.we-online.de; Datasheet URL: https://katalog.we-online.de/em/datasheet/6120xx21621.pdf; Orientation: Vertical; Package Reference: 61201021621; Part Number: 61201021621; Publisher: WurthElektronik
footprint 61201021621 (10 pins, straight, gold plating)
pins: 1, 2, 3, 4, 5, 6, 7, 8, 9, 10

## CMP-1502-00601-2
designator P?, comment 61900419521
NexarPartId: 18818228; Current Rating: 3A; Number of Contacts: 4; Voltage Rating: 250V; Pitch: 2.54mm; Insulation Resistance: 1GΩ; Connector Type: Male Pin; Contact Resistance: 20mΩ; Gender: Male; Mount: Through Hole; REACH SVHC: Unknown; Color: Beige; Min Operating Temperature: -40°C; Height: 12.47mm; RoHS: Compliant; Operating Supply Voltage: 250V; Termination: Through Hole; Flammability Rating: UL94 V-0; Max Operating Temperature: 105°C; Fastening Type: Friction; Housing Material: Nylon; Number of Pins: 4; Length: 10.16mm; Packaging: Bulk; Lead Pitch: 2.54mm; Contact Plating: Tin; Contact Gender: Male; Width: 10.16mm; Number of Rows: 1; Number of Positions: 4; Contact Mating Length: 7.493mm; Contact Material: Copper
footprint 61900419521 (2.54mm Male Right Angled Locking Header Top Locking, 4p)
pins: 1, 2, 3, 4

## CMP-2000-05191-1
designator D?, comment SP0503BAHTG
TVS Diode Array, 30 pF, 30 KV, -40 to 85 degC, 4-Pin SOT143, RoHS, Tape and Reel; Manufacturer: Littelfuse; Direction Type: Uni-Directional; Product Height (mm): 1.05mm; Leakage Current (Max): 0.1uA; Clamping Voltage (Max): 8V; Reverse Stand-off Voltage: 5.5(Min)V; Configuration: Triple; Working Voltage: 5.5V; Product Length (mm): 3.04mm; Working Voltage (Max): 5.5V(Min); Capacitance Value: 30pF; Rad Hardened: No; Number of Elements: 3; Product Depth (mm): 1.4mm; Operating Temperature Max Deg. C: 85C; Suppressor Type: TVS; Operating Temperature Min Deg. C: -40C; Operating Temp Range: -40Cto85C; Mounting: SurfaceMount; Package / Case: SOT-143; Datasheet Version: Dec-13; Package Type: SOT-143; Packaging: TapeandReel; Pin Count: 3+Tab; Operating Temperature Classification: Industrial; Datasheet URL: https://datasheet.ciiva.com/15143/getdatasheetpartid-116020-15143550.pdf; Manufacturer URL: http://www.littelfuse.com/; Leakage Current: 0.1uA; Mounting Style: SurfaceMount; Clamping Voltage: 8V; Polarity: Uni-Directional
footprint LFUS-SOT143-4_V (SOT143, 4-Leads, Body 3.04x1.4mm, Pitch 1.90mm)
pins: 1, 2, 3, 4

## CMP-2000-05243-1
designator P?, comment 22-27-2041
Male Header, Pitch 2.54 mm, 1 x 4 Position, Height 11.7 mm, Tail Length 3.56 mm, RoHS, Bulk; Manufacturer: Molex; Voltage rating: 250V; Current rating: 4A; Datasheet Version: Rev. F, 06/2009; Operating temperature: 0degCto+75degC; Contact material: Tinplatedbrass; Manufacturer URL: http://www.molex.com/; Housing material: Nylon(UL94V-0); Datasheet URL: http://www.molex.com/pdm_docs/sd/022272041_sd.pdf
footprint MOLX-22-27-2041_V (CONN, 4-Leads, Body 10.16x5.8mm, Pitch 2.54mm)
pins: 1, 2, 3, 4

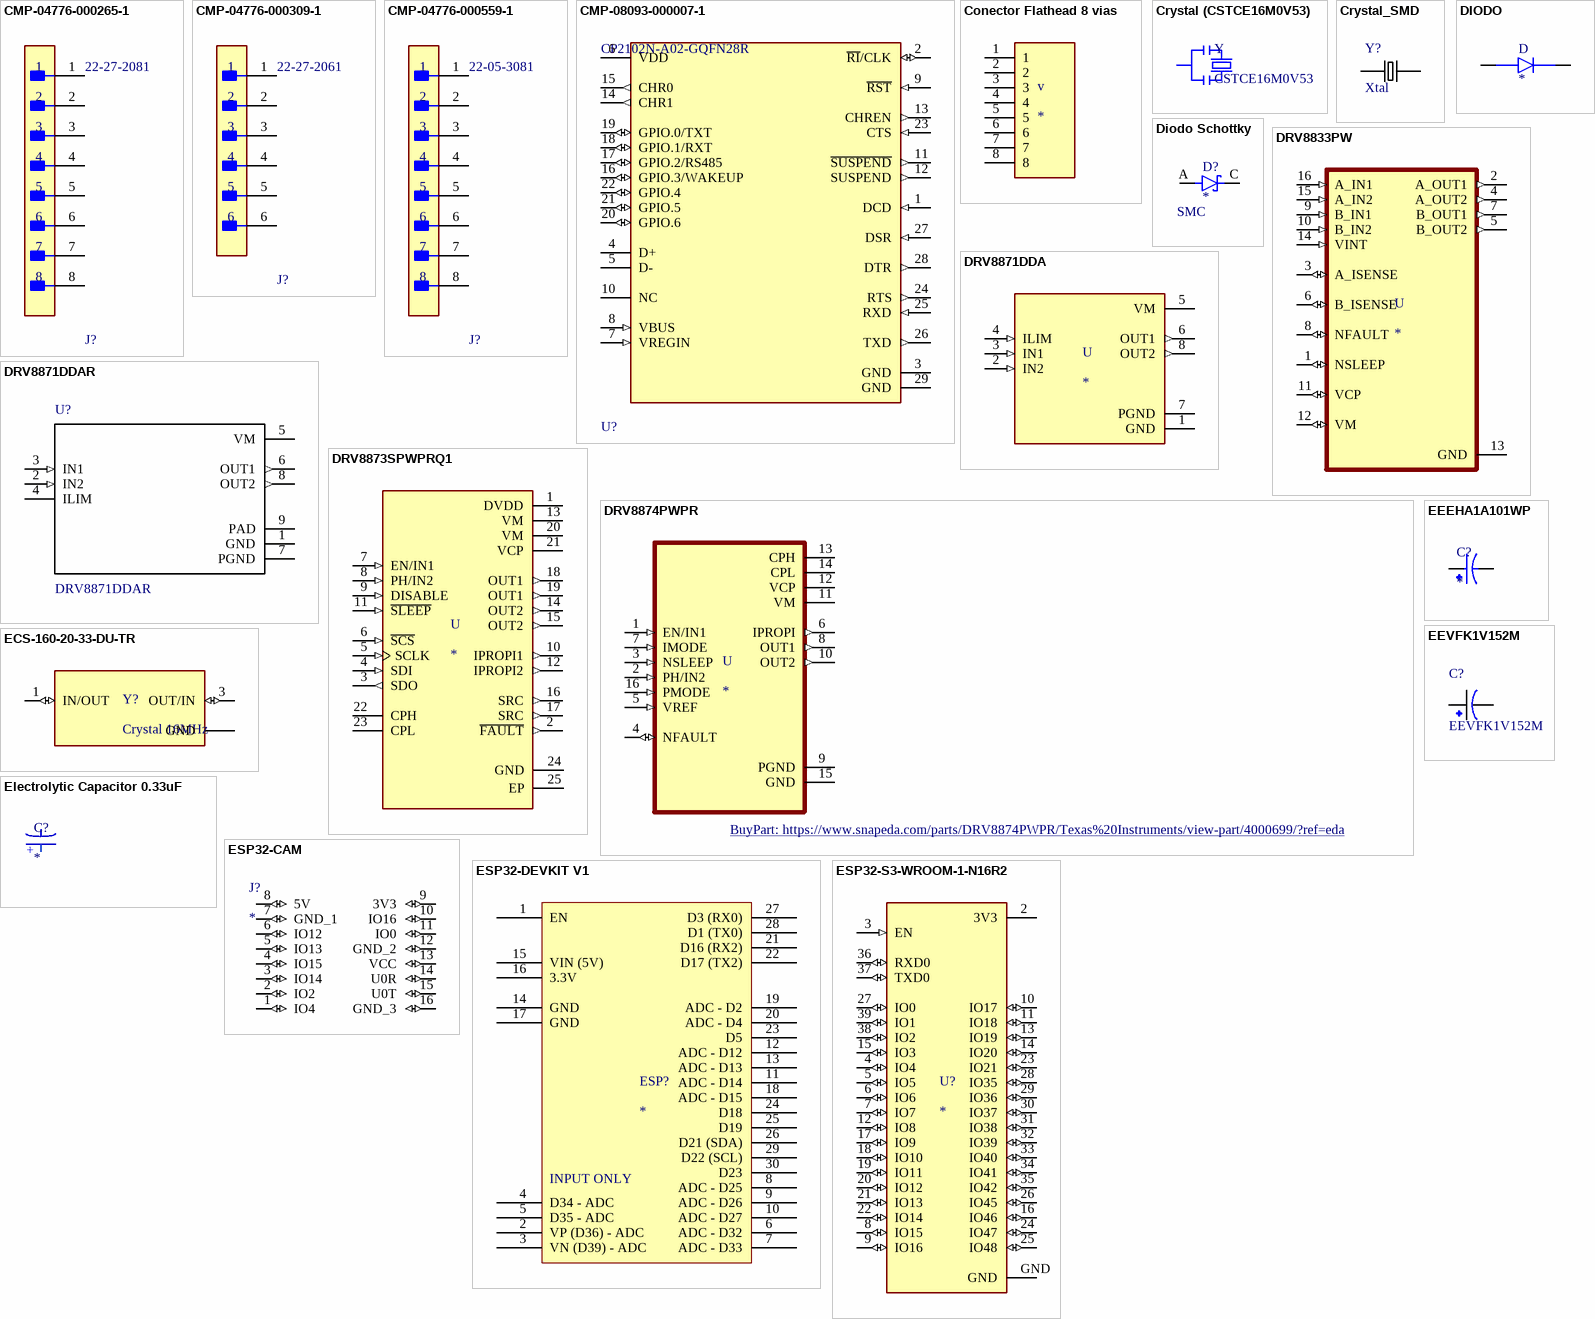
[diagram p2: symbols CMP-04776-000265-1 to ESP32-S3-WROOM-1-N16R2]

## CMP-04776-000265-1
designator J?, comment 22-27-2081
CONN HEADER VERT 8POS 2.54MM; Voltage Rating (AC): 250V; Contact Resistance: 10mR; Number of Circuits: 8; Gender: Male; Current Rating: 4A; Insulation Resistance: 50GR; Hole Diameter: 1.02mm; Glow Wire Compliant: Non-compliant; Series: KK® 6410; Color: Natural; Material: Nylon; Lead Pitch: 2.54mm; Fastening Type: Friction; Voltage Rating: 250V; Pitch: 2.54mm; Max Operating Temperature: 75°C; Number of Poles: 8; Packaging: Bulk; Housing Color: White; RoHS Compliant: Yes; Halogen Free: Low Halogen; Number of Positions: 8; Package Quantity: 8000; Termination: Solder; Number of Contacts: 8; Number of Rows: 1; Housing Material: Nylon; Depth: 5.8mm; Contact Mating Length: 0.295inch; Orientation: Straight; Working Voltage: 250V; Contact Material: Brass; Contact Type: Male Pin; Voltage Rating (DC): 250V; Lead Free: Lead Free; Radiation Hardening: No; Mount: Through Hole; Min Operating Temperature: 0°C; Contact Plating: Tin; Flammability Rating: UL94 V-0
footprint FP-22-27-2081-MFG
pins: 1, 2, 3, 4, 5, 6, 7, 8

## CMP-04776-000309-1
designator J?, comment 22-27-2061
CONN HEADER VERT 6POS 2.54MM; Number of Contacts: 6; Current Rating: 4A; Voltage Rating (AC): 250V; Contact Resistance: 10mR; Hole Diameter: 1.02mm; Connector Type: Male Pin; Gender: Male; Mount: Through Hole; REACH SVHC: No SVHC; Number of Rows: 1; Contact Plating: Tin; Series: KK; Depth: 5.8mm; Flammability Rating: UL94 V-0; Contact Type: Male Pin; Lead Pitch: 2.54mm; Min Operating Temperature: 0°C; Pitch: 2.54mm; Radiation Hardening: No; Color: Natural; Length: 15.24mm; Termination: Solder; Orientation: Straight; Contact Material: Brass; Max Voltage Rating (AC): 250V; Housing Material: Nylon; Max Operating Temperature: 75°C; Working Voltage: 250V; Max Current Rating: 4A; Fastening Type: Friction; Voltage Rating: 250V; Housing Color: White; Packaging: Bulk; Material: Nylon; Contact Mating Length: 0.295inch; Package Quantity: 10000; Number of Positions: 6
footprint FP-22-27-2061-MFG
pins: 1, 2, 3, 4, 5, 6

## CMP-04776-000559-1
designator J?, comment 22-05-3081
CONN HEADER R/A 8POS 2.54MM; Gender: Male; Current Rating: 4A; Voltage Rating: 250V; Number of Positions: 8; Contact Resistance: 10mR; Approvals: UL; Connector Type: Male Pin; Min Operating Temperature: 0°C; Termination: Solder; Flammability Rating: UL94 V-0; Series: KK® 7478; Contact Type: Male Pin; Depth: 12.83mm; Number of Rows: 1; Contact Mating Length: 0.264inch; Contact Plating: Tin; Radiation Hardening: No; Mount: Through Hole; Length: 20.32mm; Packaging: Bulk; Fastening Type: Friction; Contact Gender: Male; Contact Material: Brass; Max Current Rating: 4A; Housing Color: White; RoHS Compliant: Yes; Housing Material: Nylon; Pitch: 2.54mm; Package Quantity: 4000; Number of Contacts: 8; Orientation: Right Angle; Color: White; Max Operating Temperature: 75°C
footprint FP-22-05-3081-MFG
pins: 1, 2, 3, 4, 5, 6, 7, 8

## CMP-08093-000007-1
designator U?, comment CP2102N-A02-GQFN28R
IC USB TO UART BRIDGE QFN28
footprint FP-CP2102N-A02-GQFN28R-IPC_B
footprint FP-CP2102N-A02-GQFN28R-IPC_A
footprint FP-CP2102N-A02-GQFN28R-MFG
footprint FP-CP2102N-A02-GQFN28R-IPC_C
pins: 1 DCD (in), 2 ~{RI}/CLK (io), 3 GND (power), 4 D+, 5 D-, 6 VDD (power), 7 VREGIN (in), 8 VBUS (in), 9 ~{RST} (in), 10 NC, 11 ~{SUSPEND} (out), 12 SUSPEND (out), 13 CHREN (out), 14 CHR1 (out), 15 CHR0 (out), 16 GPIO.3/WAKEUP (io), 17 GPIO.2/RS485 (io), 18 GPIO.1/RXT (io), 19 GPIO.0/TXT (io), 20 GPIO.6 (io), 21 GPIO.5 (io), 22 GPIO.4 (io), 23 CTS (in), 24 RTS (out), 25 RXD (in), 26 TXD (out), 27 DSR (in), 28 DTR (out), 29 GND (power)

## Conector Flathead 8 vias
designator v
0.5mm Side entry Flat Flexible Cable Connector; MP: FFC2B35-08-G; MF: Global Connector Technology; Package: None; Purchase-URL: https://pricing.snapeda.com/search/part/FFC2B35-08-G/?ref=eda; Value: *; SnapEDA_Link: https://www.snapeda.com/parts/FFC2B35-08-G/Global+Connector+Technology/view-part/?ref=snap; Digi-Key_Part_Number: 2073-FFC2B35-08-GTR-ND; Check_prices: https://www.snapeda.com/parts/FFC2B35-08-G/Global+Connector+Technology/view-part/?ref=eda
footprint Conector Flathead 8 vias (Footprint not found)
pins: 1, 2, 3, 4, 5, 6, 7, 8

## Crystal (CSTCE16M0V53)
designator Y, comment CSTCE16M0V53
16MHz Ceramic Resonator Built in Capacitor 15pF Â±0.3% -20Â°C ~ 80Â°C Surface Mount; MF: Murata Electronics; Price: None; Value: *; MP: CSTCE16M0V53; Package: SMD-3 Murata Electronics; SnapEDA_Link: https://www.snapeda.com/parts/CSTCE16M0V53/Murata%20Electronics%20North%20America/view-part/557998/?ref=snap; Availability: Unavailable
footprint CSTCE16M0V53
pins: 1, 2, 3

## Crystal_SMD
designator Y?, comment Xtal
Crystal 18.4320mhz 20pf t/h; MP: ECS-184-20-4VX; MF: ECS International; SnapEDA_Link: https://www.snapeda.com/parts/ECS-184-20-4VX/ECS%20International/view-part/?ref=snap; Package: HC-49/US ECS International; Price: 1.20 USD; Availability: Warning; Value: *
footprint XTAL_HC49SM-8-30-50-60-16-ATF_MTC-L
pins: 1, 2

## DIODO
designator D
Diode Standard 50V 1A Surface Mount SMA _DO-214AC_; MF: NKK Switches; MP: S1A; SnapEDA_Link: https://www.snapeda.com/parts/S1A/NKK%20Switches/view-part/2881437/?ref=snap; Availability: Unavailable; Value: *; Price: None; Package: DO-214AC-214 Alliance Sensors Group
footprint DO-214AC
pins: 1 C, 2 A

## Diodo Schottky
designator D?  Package: SMC
Diodo Schottky com encapsulamentos SMA, SMB e SMC
footprint SMC (DO-214AB) (Footprint not found)
footprint SMB (DO-214AA) (Footprint not found)
footprint SMA (DO-214AC) (Footprint not found)
pins: A, C K

## DRV8833PW
designator U
10.8-V, 2-A dual H-bridge motor driver with current regulation 16-TSSOP -40 to 85; MF: Texas Instruments; MP: DRV8833PW; Value: *; Package: TSSOP-16 Texas Instruments; Price: None; Availability: Unavailable; Mouser-Purchase-URL: https://snapeda.com/shop?store=Mouser&id=507725; SnapEDA_Link: https://www.snapeda.com/parts/DRV8833PW/Texas%20Instruments/view-part/507725/?ref=snap
footprint SOP65P640X120-16N (Footprint not found)
pins: 1 NSLEEP (io), 2 A_OUT1 (out), 3 A_ISENSE (io), 4 A_OUT2 (out), 5 B_OUT2 (out), 6 B_ISENSE (io), 7 B_OUT1 (out), 8 NFAULT (io), 9 B_IN1 (in), 10 B_IN2 (in), 11 VCP (io), 12 VM (io), 13 GND (power), 14 VINT (in), 15 A_IN2 (in), 16 A_IN1 (in)

## DRV8871DDA
designator U
45-V, 3.6-A H-bridge motor driver with integrated current sensing 8-SO PowerPAD -40 to 125; MP: DRV8871DDA; MF: Texas Instruments; Mouser-Purchase-URL: https://snapeda.com/shop?store=Mouser&id=547750; SnapEDA_Link: https://www.snapeda.com/parts/DRV8871DDA/Texas%20Instruments/view-part/547750/?ref=snap; DigiKey-Purchase-URL: https://snapeda.com/shop?store=DigiKey&id=547750; Arrow_Electronics-Purchase-URL: https://snapeda.com/shop?store=Arrow+Electronics&id=547750; Texas_Instruments-Purchase-URL: https://snapeda.com/shop?store=Texas+Instruments&id=547750; Availability: Good; Price: None; Value: *; Package: HSOIC-8 Texas Instruments
footprint DRV8871DDAR
pins: 1 GND (power), 2 IN2 (in), 3 IN1 (in), 4 ILIM (in), 5 VM (power), 6 OUT1 (out), 7 PGND (power), 8 OUT2 (out)

## DRV8871DDAR
designator U?
3.6A Brushed DC Motor Driver with Integrated Current Sensing _PWM Ctrl_ 8-SO PowerPAD -40 to 125; MF: Texas Instruments; Digi-Key_Purchase_URL: https://www.digikey.com.br/product-detail/en/texas-instruments/DRV8871DDAR/296-43024-1-ND/5722182?utm_source=snapeda&utm_medium=aggregator&utm_campaign=symbol; Package: SO-8 Texas Instruments; MP: DRV8871DDAR; SnapEDA_Link: https://www.snapeda.com/parts/DRV8871DDAR/Texas%20Instruments/view-part/?ref=snap; Digi-Key_Part_Number: 296-43024-1-ND; Value: *
footprint DRV8871DDAR
pins: 1 GND (power), 2 IN2 (in), 3 IN1 (in), 4 ILIM (power), 5 VM (power), 6 OUT1 (out), 7 PGND (power), 8 OUT2 (out), 9 PAD (power)

## DRV8873SPWPRQ1
designator U
Unipolar Motor Driver NMOS SPI 24-HTSSOP; MP: DRV8873SPWPRQ1; MF: Texas Instruments; SnapEDA_Link: https://www.snapeda.com/parts/DRV8873SPWPRQ1/Texas%20Instruments/view-part/3119548/?ref=snap; Availability: Unavailable; Package: VFQFN-48 Texas Instruments; Price: None; Value: *
footprint IC_DRV8873SPWPRQ1
pins: 1 DVDD (power), 2 ~{FAULT} (out), 3 SDO (out), 4 SDI (in), 5 SCLK (in), 6 ~{SCS} (in), 7 EN/IN1 (in), 8 PH/IN2 (in), 9 DISABLE (in), 10 IPROPI1 (out), 11 ~{SLEEP} (in), 12 IPROPI2 (out), 13 VM (power), 14 OUT2 (out), 15 OUT2 (out), 16 SRC (out), 17 SRC (out), 18 OUT1 (out), 19 OUT1 (out), 20 VM (power), 21 VCP (power), 22 CPH, 23 CPL, 24 GND (power), 25 EP (power)

## DRV8874PWPR
designator U
38-V, 6-A H-bridge motor driver with integrated current sensing & feedback 16-HTSSOP -40 to 125; MF: Texas Instruments; MP: DRV8874PWPR; Mouser-Purchase-URL: https://snapeda.com/shop?store=Mouser&id=4000699; SnapEDA_Link: https://www.snapeda.com/parts/DRV8874PWPR/Texas%20Instruments/view-part/4000699/?ref=snap; Price: None; Availability: Warning; Package: HTSSOP-16 Texas Instruments; Value: *; Texas_Instruments-Purchase-URL: https://snapeda.com/shop?store=Texas+Instruments&id=4000699; BuyPart: https://www.snapeda.com/parts/DRV8874PWPR/Texas%20Instruments/view-part/4000699/?ref=eda
footprint SOP65P640X120-17N (Footprint not found)
pins: 1 EN/IN1 (in), 2 PH/IN2 (in), 3 NSLEEP (in), 4 NFAULT (io), 5 VREF (in), 6 IPROPI (out), 7 IMODE (in), 8 OUT1 (out), 9 PGND (power), 10 OUT2 (out), 11 VM (power), 12 VCP (power), 13 CPH (power), 14 CPL (power), 15 GND (power), 16 PMODE (in)

## ECS-160-20-33-DU-TR
designator Y?, comment Crystal 16MHz
The sub miniature ECX-32 is a compact SMD Crystal. The 3.2 x 2.5 x 0.8 mm ceramic package is ideal for todayâ€™s SMD manufacturing environment.; MP: ECS-160-20-33-DU-TR; Package: None; Price: None; Value: *; Availability: Unavailable
footprint XTAL_ECS-160-20-33-DU-TR
pins: 1 IN/OUT (io), 2 GND (power), 3 OUT/IN (io), 4 GND (power)

## EEEHA1A101WP
designator C?
100ÂµF 10V Aluminum Electrolytic Capacitors Radial, Can - SMD 1000 Hrs @ 105Â°C; MF: Panasonic; MP: EEE-HA1A101WP; SnapEDA_Link: https://www.snapeda.com/parts/EEE-HA1A101WP/Panasonic/view-part/?ref=snap; Price: None; Package: RADIAL-2 Panasonic; Value: *; Check_prices: https://www.snapeda.com/parts/EEE-HA1A101WP/Panasonic/view-part/?ref=eda; Purchase-URL: https://pricing.snapeda.com/search/part/EEE-HA1A101WP/?ref=eda; Availability: In Stock
footprint CAP_EEEHA1A101WP
pins: 1, 2

## EEVFK1V152M
designator C?
Cap Aluminum Lytic 1500uF 35V 20% _16 X 16.5mm_ SMD 0.035 Ohm 1800mA 2000h 105C T/R; MF: Panasonic Electronic; MP: EEVFK1V152M; Price: None; Package: TO-220 Panasonic; Availability: Unavailable; SnapEDA_Link: https://www.snapeda.com/parts/EEVFK1V152M/Panasonic%20Electronic%20Components/view-part/?ref=snap; Value: *
footprint *CAP_EEVFK1V152M
pins: 1, 2

## Electrolytic Capacitor 0.33uF
designator C?
capacitor
footprint Eletrolytic Capacitor 5x5mm
pins: 1, 2
text: +

## ESP32-CAM
designator J?
ESP32 ESP32 Transceiver; 802.11 a/b/g/n (Wi-Fi, WiFi, WLAN), BluetoothÂ® Smart 4.x Low Energy (BLE) Evaluation Board; MP: ESP32-CAM; MF: AI-Thinker; Package: None; Price: None; Value: *; SnapEDA_Link: https://www.snapeda.com/parts/ESP32-CAM/AI-Thinker/view-part/?ref=snap; Check_prices: https://www.snapeda.com/parts/ESP32-CAM/AI-Thinker/view-part/?ref=eda; Availability: Not in stock
footprint ESP32-CAM
pins: 1 IO4 (io), 2 IO2 (io), 3 IO14 (io), 4 IO15 (io), 5 IO13 (io), 6 IO12 (io), 7 GND_1 (io), 8 5V (io), 9 3V3 (io), 10 IO16 (io), 11 IO0 (io), 12 GND_2 (io), 13 VCC (io), 14 U0R (io), 15 U0T (io), 16 GND_3 (io)

## ESP32-DEVKIT V1
designator ESP?
Placa ESP32 com 30 pinos - Modelo DEVKIT V1
footprint ESP32-DEVKIT V1 (Módulo ESP32 com 30 pinos e componente 3D)
footprint ESP32-DEVKIT V1 with HeaderConnector (Módulo ESP32 com 30 pinos e componente 3D com suporte de headers)
pins: 1 EN, 2 VP (D36) - ADC, 3 VN (D39) - ADC, 4 D34 - ADC, 5 D35 - ADC, 6 ADC - D32, 7 ADC - D33, 8 ADC - D25, 9 ADC - D26, 10 ADC - D27, 11 ADC - D14, 12 ADC - D12, 13 ADC - D13, 14 GND, 15 VIN (5V), 16 3.3V, 17 GND, 18 ADC - D15, 19 ADC - D2, 20 ADC - D4, 21 D16 (RX2), 22 D17 (TX2), 23 D5, 24 D18, 25 D19, 26 D21 (SDA), 27 D3 (RX0), 28 D1 (TX0), 29 D22 (SCL), 30 D23
text: INPUT ONLY

## ESP32-S3-WROOM-1-N16R2
designator U?
Bluetooth, WiFi 802.11b/g/n, Bluetooth v5.0 Transceiver Module 2.4GHz PCB Trace Surface Mount; MF: Espressif Systems; MP: ESP32S3WROOM1N16R2; SnapEDA_Link: https://www.snapeda.com/parts/ESP32S3WROOM1N16R2/Espressif+Systems/view-part/?ref=snap; Package: NON STANDARD Espressif Systems; Value: *; Check_prices: https://www.snapeda.com/parts/ESP32S3WROOM1N16R2/Espressif+Systems/view-part/?ref=eda
footprint ESP32-S3-WROOM-1-N16R2
pins: 2 3V3 (power), 3 EN (in), 4 IO4 (io), 5 IO5 (io), 6 IO6 (io), 7 IO7 (io), 8 IO15 (io), 9 IO16 (io), 10 IO17 (io), 11 IO18 (io), 12 IO8 (io), 13 IO19 (io), 14 IO20 (io), 15 IO3 (io), 16 IO46 (io), 17 IO9 (io), 18 IO10 (io), 19 IO11 (io), 20 IO12 (io), 21 IO13 (io), 22 IO14 (io), 23 IO21 (io), 24 IO47 (io), 25 IO48 (io), 26 IO45 (io), 27 IO0 (io), 28 IO35 (io), 29 IO36 (io), 30 IO37 (io), 31 IO38 (io), 32 IO39 (io), 33 IO40 (io), 34 IO41 (io), 35 IO42 (io), 36 RXD0 (io), 37 TXD0 (io), 38 IO2 (io), 39 IO1 (io), GND (power)

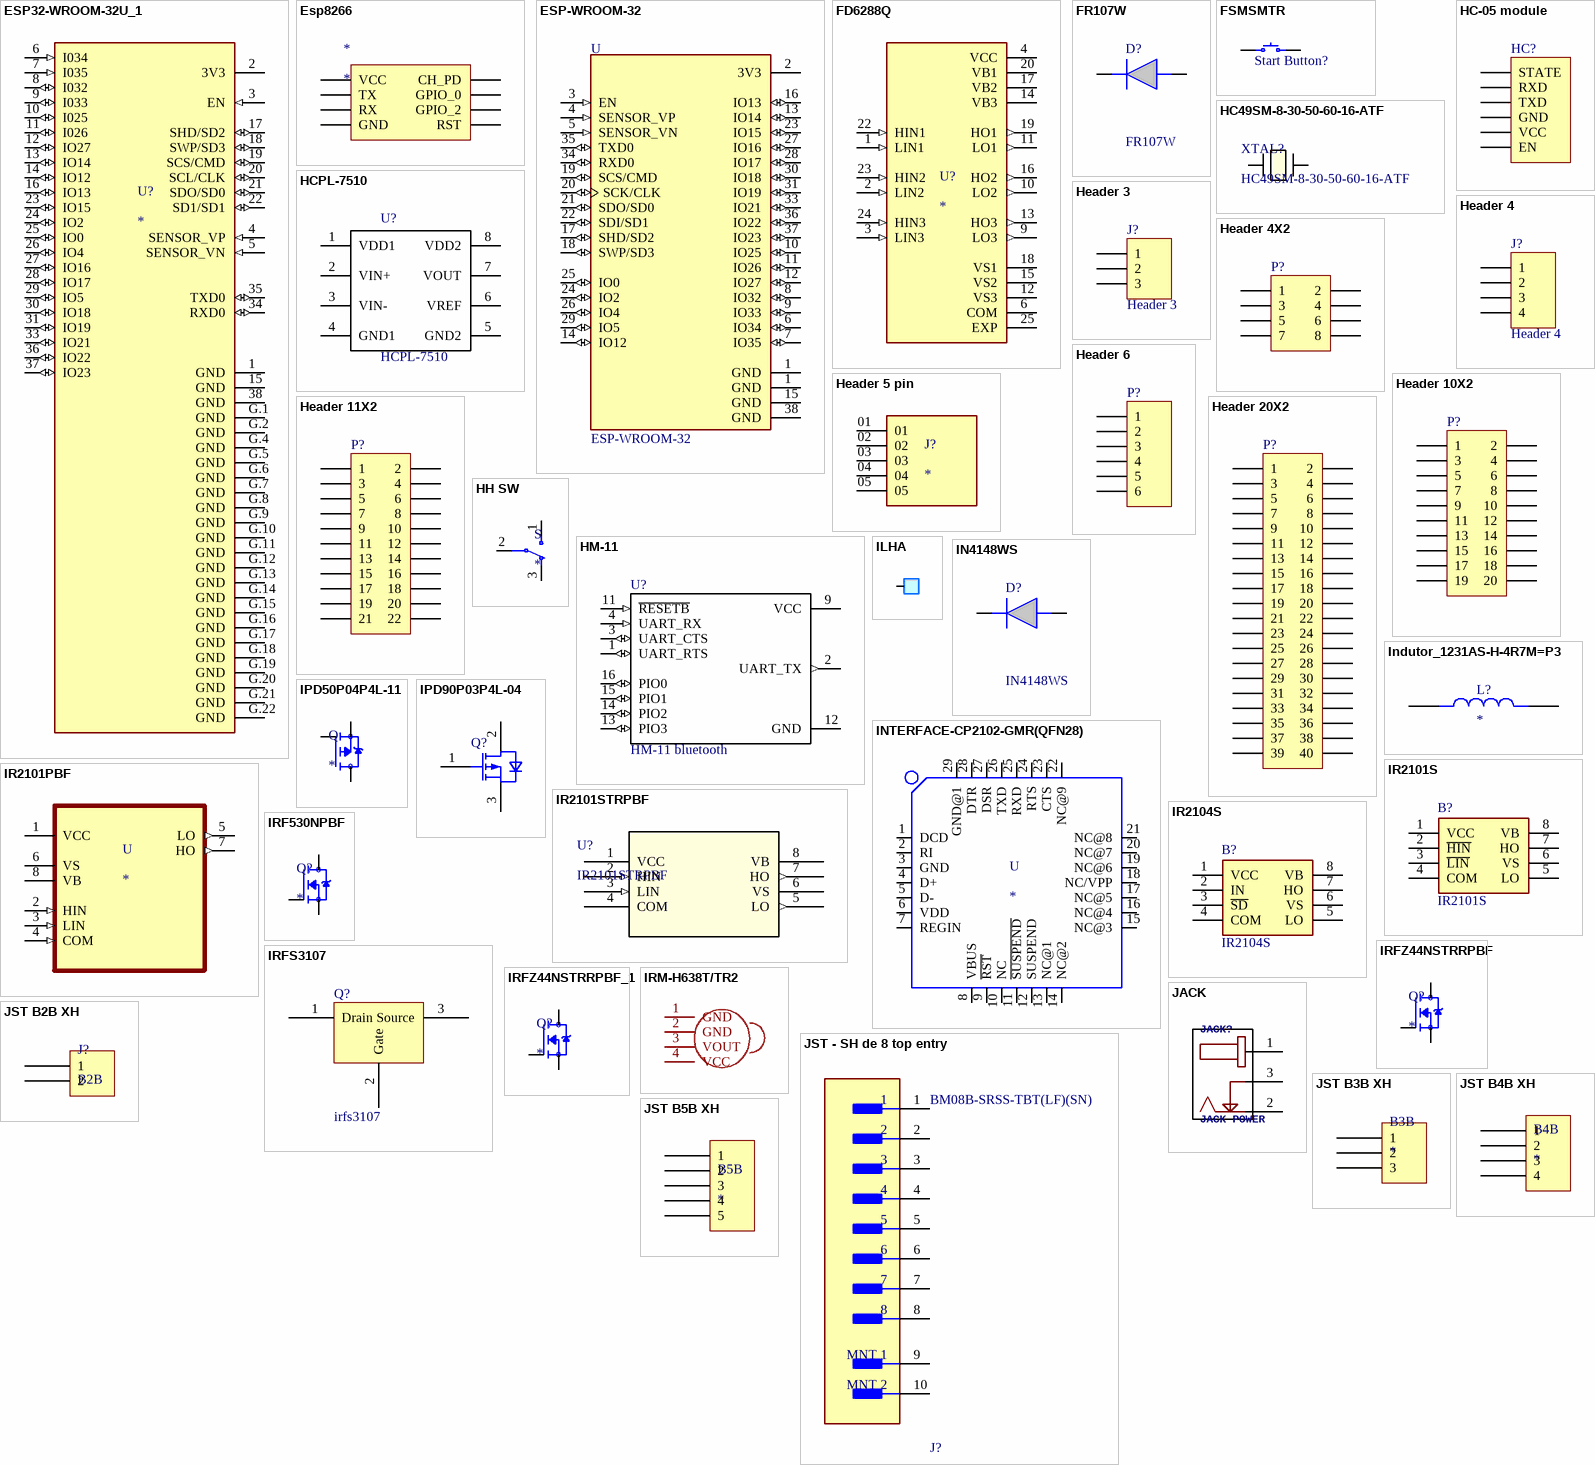
[diagram p3: symbols ESP32-WROOM-32U_1 to JST B5B XH]

## ESP32-WROOM-32U_1
designator U?
Wi-Fi/BT BLE Module ESP32-D0WD SPI Flash UART U.FL Conn.; MP: ESP32-WROOM-32U; Availability: Unavailable; Value: *; Package: None; Price: None
footprint ESP32-WROOM-32U
pins: 1 GND (power), 2 3V3 (power), 3 EN (in), 4 SENSOR_VP (in), 5 SENSOR_VN (in), 6 I034 (in), 7 I035 (in), 8 I032 (io), 9 I033 (io), 10 I025 (io), 11 I026 (io), 12 IO27 (io), 13 IO14 (io), 14 IO12 (io), 15 GND (power), 16 IO13 (io), 17 SHD/SD2 (io), 18 SWP/SD3 (io), 19 SCS/CMD (io), 20 SCL/CLK (io), 21 SDO/SD0 (io), 22 SD1/SD1 (io), 23 IO15 (io), 24 IO2 (io), 25 IO0 (io), 26 IO4 (io), 27 IO16 (io), 28 IO17 (io), 29 IO5 (io), 30 IO18 (io), 31 IO19 (io), 33 IO21 (io), 34 RXD0 (io), 35 TXD0 (io), 36 IO22 (io), 37 IO23 (io), 38 GND (power), G.1 GND (power), G.2 GND (power), G.4 GND (power), G.5 GND (power), G.6 GND (power), G.7 GND (power), G.8 GND (power), G.9 GND (power), G.10 GND (power), G.11 GND (power), G.12 GND (power), G.13 GND (power), G.14 GND (power), G.15 GND (power), G.16 GND (power), G.17 GND (power), G.18 GND (power), G.19 GND (power), G.20 GND (power), G.21 GND (power), G.22 GND (power)

## Esp8266
designator *
Módulo de TX/RX
footprint ESP8266 (Esp8266 module)
pins: 1 TX, 2 GND, 3 CH_PD, 4 GPIO_2, 5 RST, 6 GPIO_0, 7 VCC, 8 RX

## ESP-WROOM-32
designator U
WiFi 802.11b/g/n/d/e/i Transceiver Module 2.4GHz Surface Mount; MF: Olimex LTD; Value: *; SnapEDA_Link: https://www.snapeda.com/parts/ESP-WROOM-32/Olimex%20LTD/view-part/2311927/?ref=snap; MP: ESP-WROOM-32; Availability: Unavailable; Price: None; Package: Module Olimex LTD
footprint MODULE_ESP32-WROOM-32
pins: 1 GND (power), 1 GND (power), 2 3V3 (power), 3 EN (in), 4 SENSOR_VP (in), 5 SENSOR_VN (in), 6 IO34 (io), 7 IO35 (io), 8 IO32 (io), 9 IO33 (io), 10 IO25 (io), 11 IO26 (io), 12 IO27 (io), 13 IO14 (io), 14 IO12 (io), 15 GND (power), 16 IO13 (io), 17 SHD/SD2 (io), 18 SWP/SD3 (io), 19 SCS/CMD (io), 20 SCK/CLK (io), 21 SDO/SD0 (io), 22 SDI/SD1 (io), 23 IO15 (io), 24 IO2 (io), 25 IO0 (io), 26 IO4 (io), 27 IO16 (io), 28 IO17 (io), 29 IO5 (io), 30 IO18 (io), 31 IO19 (io), 33 IO21 (io), 34 RXD0 (io), 35 TXD0 (io), 36 IO22 (io), 37 IO23 (io), 38 GND (power)

## FD6288Q
designator U?
MOS Drivers QFN-24; MP: FD6288Q; Package: None; Price: None; Value: *; Availability: Unavailable
footprint QFN50P400X400X90-25N
pins: 1 LIN1 (in), 2 LIN2 (in), 3 LIN3 (in), 4 VCC (power), 6 COM (power), 9 LO3 (out), 10 LO2 (out), 11 LO1 (out), 12 VS3 (power), 13 HO3 (out), 14 VB3 (power), 15 VS2 (power), 16 HO2 (out), 17 VB2 (power), 18 VS1 (power), 19 HO1 (out), 20 VB1 (power), 22 HIN1 (in), 23 HIN2 (in), 24 HIN3 (in), 25 EXP (power)

## FR107W
designator D?
Single 1kV 1A 1.3V 1A 5uA 1kV 500ns -55&#8451 (Tj)  150&#8451 (Tj) SOD-123F Diodes - Fast Recovery Rectifiers RoHS; Manufacturer_Name: Shikues; Geometry.Height: 1.1mm; Manufacturer_Part_Number: FR107W; Mouser Part Number: *; Mouser Price/Stock: *; Arrow Part Number: *; Arrow Price/Stock: *; Datasheet Link: https://datasheet.lcsc.com/szlcsc/SK-FR107W_C122857.pdf
footprint SODFL3618X110N
pins: 1 K, 2 A

## FSMSMTR
designator Start Button?  (value not drawn)
SWITCH TACTILE SPST-NO 0.05A 24V; Manufacturer: TE Connectivity Alcoswitch Switches; Switch Function: Off-Mom; Contact Rating @ Voltage: 0.05A @ 24VDC; Actuator Type: Standard; Actuator Orientation: Top Actuated; Illumination: Non-Illuminated; Operating Force: 180gf; Switch Travel: 0.25mm; Mechanical Life: 20,000 Cycles; Part Number: FSMSMTR; PartId: 8251; Supplier 1: Digi-Key; Supplier Part Number 1: 450-1758-2-ND; ComponentLink1Description: Datasheet; ComponentLink1URL: http://www.te.com/commerce/DocumentDelivery/DDEController?Action=srchrtrv&DocNm=1437566-3&DocType=Customer+Drawing&DocLang=English; ComponentLink2Description: Digi-Key Listing; ComponentLink2URL: http://www.digikey.com/product-detail/en/FSMSMTR/450-1758-2-ND/529671; Price: 0.175; Circuit: SPST-NO; Illumination Voltage: -; Illumination Type, Colour: -; Operating Temperature: -35C ~ 85C
footprint TE FSMSMTR
footprint SW-SMD_L3.9-W3.0-P4.45
pins: 1, 2

## HC49SM-8-30-50-60-16-ATF
designator XTAL?
No Description Available; Mfr_Name: Multicomp; Copyright: Copyright (C) 2024 Ultra Librarian. All rights reserved.; Manufacturer_Part_Number: HC49SM-8-30-50-60-16-ATF; RefDes: RefDes; Type: DEV
footprint XTAL_HC49SM-8-30-50-60-16-ATF_MTC
pins: 1, 2

## HC-05 module
designator HC?
Módulo bluetooth; LatestRevisionDate: 17-Jul-2002; LatestRevisionNote: Re-released for DXP Platform.; Publisher: Altium Limited
signal-integrity model Connector
footprint HC-05 module (Connector; Header; 6 Position)
pins: 1 STATE, 2 RXD, 3 TXD, 4 GND, 5 VCC, 6 EN

## HCPL-7510
designator U?
Amplificador operacional isolado; MF: Vishay Semiconductor; MP: ILD615-1X007T; Package: SMD-8 Vishay Semiconductor; Price: None; Availability: Unavailable; SnapEDA_Link: https://www.snapeda.com/parts/ILD615-1X007T/Vishay%20Semiconductor%20Opto%20Division/view-part/?ref=snap; Value: *
footprint HCPL-7510
pins: 1 VDD1, 2 VIN+, 3 VIN-, 4 GND1, 5 GND2, 6 VREF, 7 VOUT, 8 VDD2

## Header 3
designator J?
Header, 3-Pin; LatestRevisionDate: 17-Jul-2002; LatestRevisionNote: Re-released for DXP Platform.; Publisher: Altium Limited
signal-integrity model Connector
footprint HDR1X3 TH right angle (Connector; Header; 3 Position)
footprint HDR1X3 smd (Connector; Header; 3 Position)
footprint HDR1X3 THT (Connector; Header; 3 Position)
footprint HDR1X3 TH FEMALE
pins: 1, 2, 3

## Header 4
designator J?
Header, 4-Pin; LatestRevisionDate: 17-Jul-2002; LatestRevisionNote: Re-released for DXP Platform.; Publisher: Altium Limited
signal-integrity model Connector
footprint Header1x4 - Female (Connector; Header; 4 Position; Female)
footprint Header1x4 - Male (Connector; Header; 4 Position; Male)
pins: 1, 2, 3, 4

## Header 4X2
designator P?
Header, 4-Pin, Dual row; LatestRevisionDate: 17-Jul-2002; LatestRevisionNote: Re-released for DXP Platform.; Publisher: Altium Limited
footprint HDR2X4 (Connector; Header; 4x2 Position)
signal-integrity model Connector
pins: 1, 2, 3, 4, 5, 6, 7, 8

## Header 5 pin
designator J?
MP: MTSW-105-10-G-S-295; Value: *; Package: None; Price: None; Availability: Unavailable
footprint SAMTEC_MTSW-105-10-G-S-295
pins: 01, 02, 03, 04, 05

## Header 6
designator P?
Header, 6-Pin; LatestRevisionDate: 17-Jul-2002; LatestRevisionNote: Re-released for DXP Platform.; Publisher: Altium Limited
footprint HDR1X6 (Connector; Header; 6 Position)
signal-integrity model Connector
footprint Header1x6 (Connector; Header; 6 Position)
pins: 1, 2, 3, 4, 5, 6

## Header 10X2
designator P?
Header, 10-Pin, Dual row; LatestRevisionDate: 17-Jul-2002; LatestRevisionNote: Re-released for DXP Platform.; Publisher: Altium Limited
footprint HDR2X10 (Connector; Header; 10x2 Position)
signal-integrity model Connector
pins: 1, 2, 3, 4, 5, 6, 7, 8, 9, 10, 11, 12, 13, 14, 15, 16, 17, 18, 19, 20

## Header 11X2
designator P?
Header, 11-Pin, Dual row; LatestRevisionDate: 17-Jul-2002; LatestRevisionNote: Re-released for DXP Platform.; Publisher: Altium Limited
footprint HDR2X11 (Connector; Header; 11x2 Position)
signal-integrity model Connector
pins: 1, 2, 3, 4, 5, 6, 7, 8, 9, 10, 11, 12, 13, 14, 15, 16, 17, 18, 19, 20, 21, 22

## Header 20X2
designator P?
Header, 20-Pin, Dual row; LatestRevisionDate: 17-Jul-2002; LatestRevisionNote: Re-released for DXP Platform.; Publisher: Altium Limited
footprint HDR2X20 (Connector; Header; 20x2 Position)
signal-integrity model Connector
pins: 1, 2, 3, 4, 5, 6, 7, 8, 9, 10, 11, 12, 13, 14, 15, 16, 17, 18, 19, 20, 21, 22, 23, 24, 25, 26, 27, 28, 29, 30, 31, 32, 33, 34, 35, 36, 37, 38, 39, 40

## HH SW
designator S
Slide Switch SPDT Through Hole; MP: SSA12G; MF: TE Connectivity; Price: None; Value: *; Package: None; TE_purchase_URL: https://www.te.com/usa-en/product-1-1437575-5.html?te_bu=Cor&te_type=disp&te_campaign=seda_glo_cor-seda-global-disp-prtnr-fy19-seda-model-bom-cta_sma-317_1&elqCampaignId=32493; SnapEDA_Link: https://www.snapeda.com/parts/SSA12G/TE%20Connectivity%20ALCOSWITCH%20Switches/view-part/2876577/?ref=snap; Availability: Unavailable
footprint HH SW
pins: 1, 2, 3

## HM-11
designator U?, comment HM-11 bluetooth
Bluetooth V4.0 Hm-11 Ble Module; MP: 317030001; MF: Seeed Technology; Availability: Unavailable; Package: Module Seeed Studio; SnapEDA_Link: https://www.snapeda.com/parts/317030001/Seeed%20Technology%20Co.%2C%20Ltd/view-part/?ref=snap; Price: None; Value: *
footprint *XCVR_317030001
pins: 1 UART_RTS (io), 2 UART_TX (out), 3 UART_CTS (io), 4 UART_RX (in), 9 VCC (power), 11 ~{RESETB} (in), 12 GND (power), 13 PIO3 (io), 14 PIO2 (io), 15 PIO1 (io), 16 PIO0 (io)

## ILHA
designator 5v_bms?, comment 5v_bms  (value not drawn)
Ilha
footprint ILHA (Ilha)
pins: 1

## IN4148WS
designator D?
Small Signal Fast Switching Diode; Manufacturer_Name: Vishay; Geometry.Height: 1.15mm; Manufacturer_Part_Number: IN4148WS; Mouser Part Number: *; Mouser Price/Stock: *; Arrow Part Number: *; Arrow Price/Stock: *; Datasheet Link: https://docs.rs-online.com/69cb/0900766b80dd2a8d.pdf
footprint SOD2713X115N
pins: 1 K, 2 A

## Indutor_1231AS-H-4R7M=P3
designator L?
Inductor Power Shielded Wirewound 14.7uH 30% 100KHz Ferrite 2.7A 42mOhm DCR 1514 T/R; MP: 1231AS-H-4R7M=P3; Package: None; Price: None; Value: *; Availability: Unavailable
footprint IND_1231AS-H-4R7M=P3
pins: 1, 2

## INTERFACE-CP2102-GMR(QFN28)
designator U
USB Bridge, USB to UART USB 2.0 UART Interface 28-QFN _5x5_; MP: CP2102-GMR; MF: Silicon; SnapEDA_Link: https://www.snapeda.com/parts/CP2102-GMR/Silicon%20Labs/view-part/570818/?ref=snap; Price: None; Availability: Unavailable; Value: *; Package: VFQFN-28 Vishay Siliconix
footprint QFN28G_0.5-5X5MM
pins: 1 DCD (io), 2 RI (io), 3 GND (io), 4 D+ (io), 5 D- (io), 6 VDD (io), 7 REGIN (io), 8 VBUS (io), 9 ~{RST} (io), 10 NC (io), 11 ~{SUSPEND} (io), 12 SUSPEND (io), 13 NC@1 (io), 14 NC@2 (io), 15 NC@3 (io), 16 NC@4 (io), 17 NC@5 (io), 18 NC/VPP (io), 19 NC@6 (io), 20 NC@7 (io), 21 NC@8 (io), 22 NC@9 (io), 23 CTS (io), 24 RTS (io), 25 RXD (io), 26 TXD (io), 27 DSR (io), 28 DTR (io), 29 GND@1 (io)